# Altium footprint library Mach dieu khien tu xa.PcbLib: 33 footprints (part 2 of 3)
Each footprint in its own frame and in the unit in brackets; x right, y up, seen from the top. Pads: shape width x height; smd on the part's side, far side on the other; paste and mask are expansions set on the pad; w line width, h text height; cw(c..) or ccw(c..) is an arc to the next point about the centre after c.
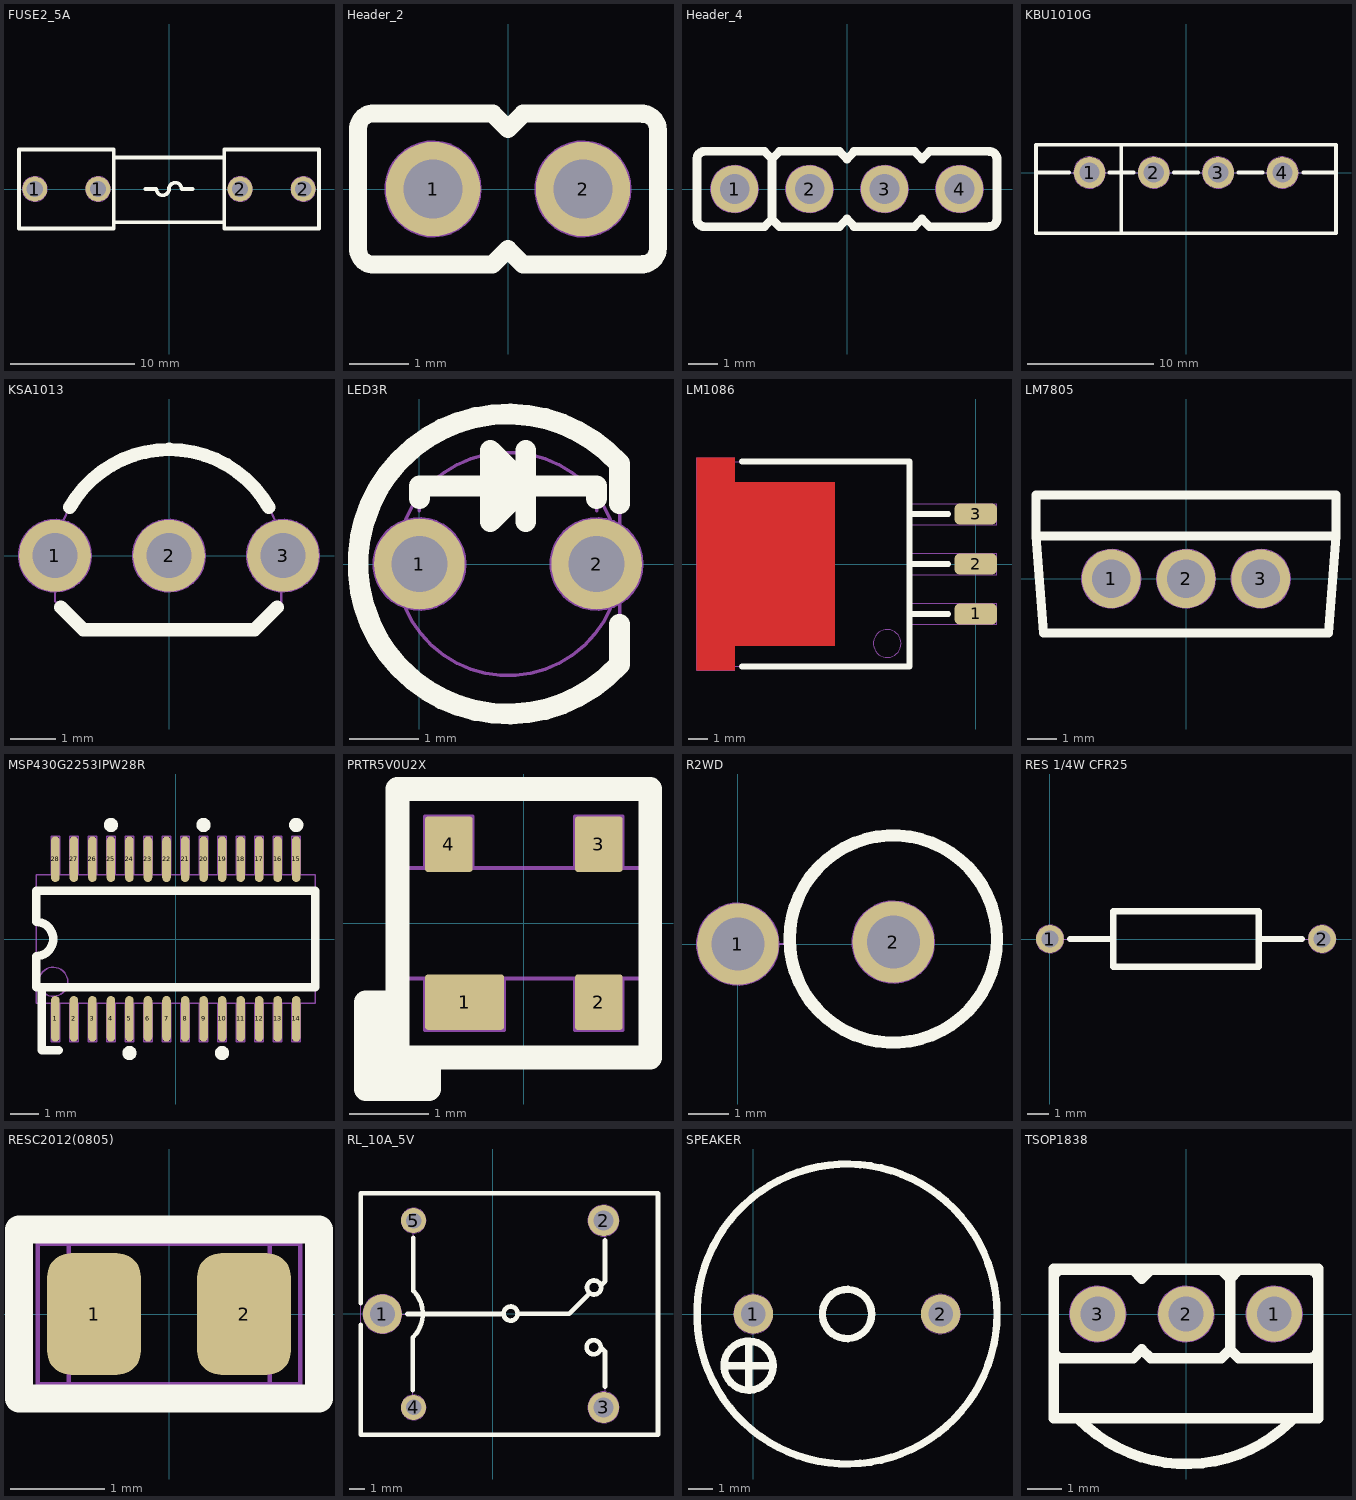
[diagram p1: the footprints below, top view; thin cyan lines are the x and y axes]

## FUSE2_5A [mm] "Fuse 2.5A  250V"
height 1
pads (4):
  round 2 hole 1.3: 1(-10.795,0) 1(-5.715,0) 2(5.715,0) 2(10.795,0)
Top Overlay:
  lines w0.3: -4.445,-2.667 4.445,-2.667 ; -4.445,2.54 4.445,2.54 ; -1.905,0 -1.016,0 ccw(c-0.508,0) 0,0 cw(c0.508,0) 1.016,0 1.905,0 ; -12.065,-3.175 -4.445,-3.175 -4.445,3.175 -12.065,3.175 -12.065,-3.175 ; 4.445,-3.175 4.445,3.175 12.065,3.175 12.065,-3.175 4.445,-3.175
Mechanical 1:
  circle w0.05: c10.795,0 r1
  circle w0.05: c5.715,0 r1
  circle w0.05: c-5.715,0 r1
  circle w0.05: c-10.795,0 r1
  lines w0.05: -4.445,-2.667 4.445,-2.667 ; -4.445,2.54 4.445,2.54 ; -12.065,-3.175 -12.065,3.175 -4.445,3.175 -4.445,-3.175 -12.065,-3.175 ; 4.445,-3.175 4.445,3.175 12.065,3.175 12.065,-3.175 4.445,-3.175
3D body "SW3dPS-Fuse Leg_2009.STEP": height 9.6, standoff -3.3, extent 5.304,-3.09 11.4,3.1
3D body "SW3dPS-Fuse Leg_2009.STEP": height 9.6, standoff -3.3, extent -11.296,-3.09 -5.2,3.1
3D body "SW3dPS-Fuse Small 1A.STEP": height 9.41, standoff 4.31, extent -9.774,-2.489 9.926,2.611

## Header_2 [mm] "Connector DIP, 2Pin_2.54mm"
height 5
pads (2):
  round 1.6 hole 1 mask+0.1: 1(-1.27,0) 2(1.27,0)
Top Overlay:
  lines w0.3: -0.264,-1.28 -2.3,-1.28 cw(c-2.28,-1.02) -2.54,-1 -2.54,1 cw(c-2.28,1.02) -2.3,1.28 -0.254,1.28 ; -0.254,-1.27 0,-1.016 0,-1.026 0.254,-1.28 2.286,-1.28 2.286,-1.27 ; -0.254,1.27 0,1.016 0.254,1.27 ; 0.254,1.28 2.286,1.28 2.286,1.27 ; 2.26,-1.28 ccw(c2.26,-1) 2.54,-1 2.54,1 ccw(c2.26,1) 2.26,1.28
Mechanical 1:
  circle w0.05: c-1.27,0 r0.8
  circle w0.05: c1.27,0 r0.8
  lines w0.05: -0.264,-1.28 -2.3,-1.28 cw(c-2.28,-1.02) -2.54,-1 -2.54,1 cw(c-2.28,1.02) -2.3,1.28 -0.254,1.28 ; -0.254,-1.27 0,-1.016 0,-1.026 0.254,-1.28 2.286,-1.28 2.286,-1.27 ; -0.254,1.27 0,1.016 0.254,1.27 ; 0.254,1.28 2.286,1.28 2.286,1.27 ; 2.26,-1.28 ccw(c2.26,-1) 2.54,-1 2.54,1 ccw(c2.26,1) 2.26,1.28
  text "2" at 1.016,-0.254 h1.2
  text "1" at -1.524,-0.254 h1.2
3D body "Header 1x2.STEP": height 10.1, standoff -1.5, extent -2.54,-1.27 2.54,1.27

## Header_4 [mm] "Connector DIP, 4Pin_2.54mm"
height 5
pads (4):
  round 1.6 hole 1 mask+0.1: 1(-3.81,0) 2(-1.27,0) 3(1.27,0) 4(3.81,0)
Top Overlay:
  lines w0.3: -2.794,-1.28 -2.794,-1.27 ; -2.794,1.27 -2.54,1.016 ; -2.794,1.28 -4.84,1.28 ccw(c-4.82,1.02) -5.08,1 -5.08,-1 ccw(c-4.82,-1.02) -4.84,-1.28 -2.804,-1.28 -2.794,-1.27 ; -2.286,1.27 -2.54,1.016 ; -2.286,1.28 -0.254,1.28 -0.254,1.27 0,1.016 0.254,1.27 ; 0.24,-1.28 2.276,-1.28 2.286,-1.27 ; 0.24,1.28 2.286,1.28 ; 0.254,-1.27 0,-1.016 -0.254,-1.27 -0.254,-1.28 -2.286,-1.28 -2.54,-1.026 ; 2.286,-1.28 2.286,-1.27 ; 2.286,1.27 2.54,1.016 2.794,1.27 ; 2.794,1.28 4.826,1.28 4.826,1.27 ; 4.8,-1.28 ccw(c4.8,-1) 5.08,-1 5.08,1 ccw(c4.8,1) 4.8,1.28 ; 4.826,-1.27 4.826,-1.28 2.794,-1.28 2.54,-1.026 2.54,-1.016 2.286,-1.27 ; -2.794,-1.27 -2.54,-1.016 -2.54,-1.026 ; -2.54,-1.026 -2.54,1.016
Mechanical 1:
  circle w0.05: c3.81,0 r0.8
  circle w0.05: c1.27,0 r0.8
  circle w0.05: c-1.27,0 r0.8
  circle w0.05: c-3.81,0 r0.8
  circle w0.05: c-3.81,0 r0.8
  lines w0.05: -2.794,-1.28 -2.794,-1.27 ; -2.794,1.27 -2.54,1.016 -2.286,1.27 ; -2.794,1.28 -4.84,1.28 ccw(c-4.82,1.02) -5.08,1 -5.08,-1 ccw(c-4.82,-1.02) -4.84,-1.28 -2.804,-1.28 -2.794,-1.27 ; -2.286,1.28 -0.254,1.28 -0.254,1.27 0,1.016 0.254,1.27 ; 0.24,-1.28 2.276,-1.28 2.286,-1.27 ; 0.24,1.28 2.286,1.28 ; 0.254,-1.27 0,-1.016 -0.254,-1.27 -0.254,-1.28 -2.286,-1.28 -2.54,-1.026 -2.54,-1.016 -2.794,-1.27 ; 2.286,-1.28 2.286,-1.27 ; 2.286,1.27 2.54,1.016 2.794,1.27 ; 2.54,-1.026 2.794,-1.28 4.826,-1.28 4.826,-1.27 ; 2.54,-1.016 2.286,-1.27 ; 2.794,1.28 4.826,1.28 4.826,1.27 ; 4.8,-1.28 ccw(c4.8,-1) 5.08,-1 5.08,1 ccw(c4.8,1) 4.8,1.28
  text "1" at -4.064,-0.254 h1.2
  text "4" at 3.556,-0.254 h1.2
3D body "Header 1x4.STEP": height 10.1, standoff -1.5, extent -5.08,-1.27 5.08,1.27

## KBU1010G [mm] "KBP206 bridge diode 10A"
height 19.8
pads (4):
  round 2.5 hole 1.6 mask+0.1: 1(-7.62,0) 2(-2.54,0) 3(2.54,0) 4(7.62,0)
Top Overlay:
  lines w0.3: -11.85,0 -9.24,0 ; -6.04,0 -4.14,0 ; -5.12,-4.8 -5.12,2.2 ; -0.96,0 0.96,0 ; 4.12,0 6.06,0 ; 9.26,0 11.85,0 ; -11.85,-4.8 11.85,-4.8 11.85,2.2 -11.85,2.2 -11.85,-4.8
Mechanical 1:
  circle w0.05: c7.62,0 r1.25
  circle w0.05: c2.54,0 r1.25
  circle w0.05: c-2.54,0 r1.25
  circle w0.05: c-7.62,0 r1.25
  lines w0.05: -11.85,0 -8.87,0 ; -6.37,0 -3.79,0 ; -5.12,-4.8 -5.12,2.2 ; -1.29,0 1.29,0 ; 3.79,0 6.37,0 ; 8.87,0 11.85,0 ; -11.85,-4.8 11.85,-4.8 11.85,2.2 -11.85,2.2 -11.85,-4.8
  text "+" at -7.92,-2.4 h1
  text "AC" at -3.32,-2.5 h1
  text "AC" at 1.78,-2.5 h1
  text "-" at 7.48,-2.4 h1
  text "4" at 7.28,-0.5 h1
  text "1" at -7.72,-0.5 h1
3D body "User Library-Silicon Bridge Rectifiers KBU1010.step": height 18.65, standoff -23.65, extent -11.6,-4.75 11.6,2.2

## KSA1013 [mm] "TO-92 Bent Lead, Flat Index; 3 In-Line, Axial Leads; Body Dia. 4.5mm; Leads 0.51 x 0.48 mm (max)"
height 6.5
pads (3):
  round 1.6 hole 1 mask+0.1: 1(-2.54,0) 2(0,0)
  round 1.6 hole 1: 3(2.54,0)
Top Overlay:
  lines w0.3: -2.413,-1.143 -1.905,-1.651 1.905,-1.651 2.413,-1.143 ; -2.212,1.074 cw(c0.006,-0.185) 2.221,1.079
Mechanical 1:
  circle w0.05: c-2.54,0 r0.8
  circle w0.05: c0,0 r0.8
  circle w0.05: c2.54,0 r0.8
  lines w0.05: -2.54,-0.8 -2.54,-1.016 -1.905,-1.651 1.905,-1.651 2.5,-1.056 2.5,-0.8 ; -2.351,0.789 cw(c0.006,-0.185) 2.364,0.785
  text "B" at 2.286,-0.381 h0.8
  text "C" at -0.254,-0.381 h0.8
  text "E" at -2.794,-0.381 h0.8
Mechanical 15:
  lines w0.1: -0.5,0 0.5,0 ; 0,-0.5 0,0.5
3D body "TO-92_Bent.STEP": height 10, standoff -3, extent -2.79,-1.59 2.79,2.613

## LED3R [mm] "LED 3mm_RED"
height 5.5
pads (2):
  round 1.3 hole 0.8: 1(0,0) 2(2.54,0)
Top Overlay:
  lines w0.3: 0,0.94 0,1.116 1.016,1.116 ; 1.092,1.548 1.092,0.684 ; 1.168,1.472 1.168,0.76 1.092,0.684 ; 1.245,1.395 1.245,0.837 1.321,0.913 ; 1.321,1.319 1.321,0.913 ; 1.397,1.243 1.397,0.989 1.321,0.913 ; 1.524,0.608 1.524,1.624 ; 2.54,0.94 2.54,1.116 2.286,1.116 1.524,1.116 ; 2.869,-1.437 cw(c1.27,0) 2.869,1.437 ; 2.87,-1.438 2.87,-0.864 ; 2.87,0.864 2.87,1.438 ; 1.016,0.608 1.016,1.624 1.524,1.116 ; 1.016,0.608 1.524,1.116 ; 1.016,0.608 1.092,0.684
Mechanical 1:
  circle w0.05: c1.27,0 r1.6
  circle w0.05: c0,0 r0.65
  circle w0.05: c2.54,0 r0.65
  lines w0.05: 0,0.762 0,1.016 1.016,1.016 ; 1.092,1.448 1.092,0.584 ; 1.168,1.372 1.168,0.66 1.092,0.584 ; 1.245,1.295 1.245,0.737 1.321,0.813 ; 1.321,1.219 1.321,0.813 ; 1.397,1.143 1.397,0.889 1.321,0.813 ; 1.524,0.508 1.524,1.524 ; 2.54,0.762 2.54,1.016 2.286,1.016 1.524,1.016 ; 2.868,-1.438 cw(c1.27,0) 2.868,1.438 ; 2.87,-1.438 2.87,1.438 ; 1.016,0.508 1.092,0.584 ; 1.016,0.508 1.524,1.016 ; 1.016,0.508 1.016,1.524 1.524,1.016
3D body "User Library-LED-D3R.step": height 4.6, standoff -6.5, extent -0.73,-2 2.937,2

## LM1086 [mm] "TO-263 1.5A Low Dropout Positive Regulators"
height 4.64
pads (3):
  rrect50% 2.16x1.07 smd mask+0.1: 1(0,-2.54) 2(0,0) 3(0,2.54)
Top Layer:
  region: -14.17,-5.4 -14.17,5.4 -12.26,5.4 -12.26,4.165 -7.18,4.165 -7.18,-4.165 -12.26,-4.165 -12.26,-5.4
Top Overlay:
  lines w0.3: -11.875,-5.205 -3.37,-5.205 -3.37,5.205 -11.875,5.205 ; -3.37,-2.54 -1.4,-2.54 ; -3.37,0 -1.4,0 ; -3.37,2.54 -1.4,2.54
Top Paste:
  region: -14.17,-5.4 -14.17,5.4 -12.26,5.4 -12.26,4.165 -7.18,4.165 -7.18,-4.165 -12.26,-4.165 -12.26,-5.4
Mechanical 1:
  circle w0.05: c-4.5,-4.04 r0.707
  lines w0.05: -12.26,-5.19 -12.26,-5.4 -14.17,-5.4 -14.17,5.4 -12.26,5.4 -12.26,5.205 ; -13.53,-5.205 -3.37,-5.205 -3.37,5.205 -13.53,5.205 -13.53,-5.205 ; -3.37,-3.075 -3.37,-2.005 1.08,-2.005 1.08,-3.075 -3.37,-3.075 ; -3.37,-0.535 -3.37,0.535 1.08,0.535 1.08,-0.535 -3.37,-0.535 ; -3.37,2.005 -3.37,3.075 1.08,3.075 1.08,2.005 -3.37,2.005
  text "3" at -3.575,2.2 h1
  text "2" at -3.675,-0.4 h1
  text "1" at -3.675,-2.7 h1
3D body "SW3dPS-TO263-3S.STEP": height 4.78, standoff -0.02, extent -14.518,-5 1.152,5

## LM7805 [mm] "POWER IC 7805"
height 15.49
pads (3):
  round 2 hole 1.3: 1(-2.54,0) 2(0,0) 3(2.54,0)
Top Overlay:
  lines w0.3: -5.1,1.451 -4.85,-1.85 4.85,-1.85 5.1,1.451 ; -5.1,1.45 -5.1,2.85 5.1,2.85 5.1,1.45 -5.1,1.45
Mechanical 1:
  circle w0.05: c-2.54,0 r1
  circle w0.05: c0,0 r1
  circle w0.05: c2.54,0 r1
  lines w0.05: -5.1,1.451 -4.85,-1.85 4.85,-1.85 5.1,1.451 ; -5.1,1.45 5.1,1.45 5.1,2.85 -5.1,2.85 -5.1,1.45
  text "I" at -2.667,1.524 h1.2
  text "G" at -0.381,1.524 h1.2
  text "O" at 2.159,1.524 h1.2
3D body "SW3dPS-TO220AB.STEP": height 19.17, standoff -10.16, extent -5.562,-1.626 5.651,3.064

## MSP430G2253IPW28R [mm] "TSSOP PW 28  PIN TO PIN 0.65"
height 1.2
pads (28):
  oval 0.3x1.6 smd mask+0.1: 1(-4.225,-2.8) 2(-3.575,-2.8) 3(-2.925,-2.8) 4(-2.275,-2.8) 5(-1.625,-2.8) 6(-0.975,-2.8) 7(-0.325,-2.8) 8(0.325,-2.8) 9(0.975,-2.8) 10(1.625,-2.8) 11(2.275,-2.8) 12(2.925,-2.8) 13(3.575,-2.8) 14(4.225,-2.8) 15(4.225,2.8) 16(3.575,2.8) 17(2.925,2.8) 18(2.275,2.8) 19(1.625,2.8) 20(0.975,2.8) 21(0.325,2.8) 22(-0.325,2.8) 23(-0.975,2.8) 24(-1.625,2.8) 25(-2.275,2.8) 26(-2.925,2.8) 27(-3.575,2.8) 28(-4.225,2.8)
Top Overlay:
  circle w0.3: c-1.625,-4 r0.1
  circle w0.3: c1.625,-4 r0.1
  circle w0.3: c4.225,4 r0.1
  circle w0.3: c0.975,4 r0.1
  circle w0.3: c-2.275,4 r0.1
  lines w0.3: -4.7,-1.7 -4.7,-3.9 -4.1,-3.9 ; -4.9,-1.7 -4.9,-0.6 ccw(c-4.9,0) -4.9,0.6 -4.9,1.7 4.9,1.7 4.9,-1.7 -4.9,-1.7
Mechanical 1:
  circle w0.05: c-4.3,-1.5 r0.51
  lines w0.05: -4.9,-0.6 ccw(c-4.9,0) -4.9,0.6 ; -4.9,-2.25 -4.9,2.25 4.9,2.25 4.9,-2.25 -4.9,-2.25 ; -4.375,-3.6 -4.375,-2.25 -4.075,-2.25 -4.075,-3.6 -4.375,-3.6 ; -4.375,2.25 -4.075,2.25 -4.075,3.6 -4.375,3.6 -4.375,2.25 ; -3.725,-3.6 -3.725,-2.25 -3.425,-2.25 -3.425,-3.6 -3.725,-3.6 ; -3.725,2.25 -3.425,2.25 -3.425,3.6 -3.725,3.6 -3.725,2.25 ; -3.075,-3.6 -3.075,-2.25 -2.775,-2.25 -2.775,-3.6 -3.075,-3.6 ; -3.075,2.25 -2.775,2.25 -2.775,3.6 -3.075,3.6 -3.075,2.25 ; -2.425,-3.6 -2.425,-2.25 -2.125,-2.25 -2.125,-3.6 -2.425,-3.6 ; -2.425,2.25 -2.125,2.25 -2.125,3.6 -2.425,3.6 -2.425,2.25 ; -1.775,-3.6 -1.775,-2.25 -1.475,-2.25 -1.475,-3.6 -1.775,-3.6 ; -1.775,2.25 -1.475,2.25 -1.475,3.6 -1.775,3.6 -1.775,2.25 ; -1.125,-3.6 -1.125,-2.25 -0.825,-2.25 -0.825,-3.6 -1.125,-3.6 ; -1.125,2.25 -0.825,2.25 -0.825,3.6 -1.125,3.6 -1.125,2.25 ; -0.475,-3.6 -0.475,-2.25 -0.175,-2.25 -0.175,-3.6 -0.475,-3.6 ; -0.475,2.25 -0.175,2.25 -0.175,3.6 -0.475,3.6 -0.475,2.25 ; 0.175,-3.6 0.175,-2.25 0.475,-2.25 0.475,-3.6 0.175,-3.6 ; 0.175,2.25 0.475,2.25 0.475,3.6 0.175,3.6 0.175,2.25 ; 0.825,-3.6 0.825,-2.25 1.125,-2.25 1.125,-3.6 0.825,-3.6 ; 0.825,2.25 1.125,2.25 1.125,3.6 0.825,3.6 0.825,2.25 ; 1.475,-3.6 1.475,-2.25 1.775,-2.25 1.775,-3.6 1.475,-3.6 ; 1.475,2.25 1.775,2.25 1.775,3.6 1.475,3.6 1.475,2.25 ; 2.125,-3.6 2.125,-2.25 2.425,-2.25 2.425,-3.6 2.125,-3.6 ; 2.125,2.25 2.425,2.25 2.425,3.6 2.125,3.6 2.125,2.25 ; 2.775,-3.6 2.775,-2.25 3.075,-2.25 3.075,-3.6 2.775,-3.6 ; 2.775,2.25 3.075,2.25 3.075,3.6 2.775,3.6 2.775,2.25 ; 3.425,-3.6 3.425,-2.25 3.725,-2.25 3.725,-3.6 3.425,-3.6 ; 3.425,2.25 3.725,2.25 3.725,3.6 3.425,3.6 3.425,2.25 ; 4.075,-3.6 4.075,-2.25 4.375,-2.25 4.375,-3.6 4.075,-3.6 ; 4.075,2.25 4.375,2.25 4.375,3.6 4.075,3.6 4.075,2.25
  text "14" at 3.1,-1.9 h1
  text "15" at 3,0.9 h1
  text "28" at -4.5,0.9 h1
3D body "User Library-PWP (R-PDSO-G28).STEP": height 1.2, standoff 0, extent -4.9,-3.31 4.9,3.31

## PRTR5V0U2X [mm] "SOT143B Ultra low capacitance double rail-to-rail ESD protection diode"
height 1.1
pads (4):
  rrect10% 1x0.7 smd mask+0.1: 1(-0.75,-1)
  rrect10% 0.6x0.7 smd mask+0.1: 2(0.95,-1) 3(0.95,1) 4(-0.95,1)
Top Overlay:
  lines w0.3: -1.2,-1.9 -1.8,-1.9 -1.8,-1 -1.6,-1 -2,-1 -2,-2.1 -1.2,-2.1 -1.2,-1.7 ; -1.6,-1.7 1.6,-1.7 1.6,1.7 -1.6,1.7 -1.6,-1.7
Mechanical 1:
  lines w0.05: -1.5,-0.7 -1.5,0.7 1.5,0.7 1.5,-0.7 -1.5,-0.7 ; -1.25,-1.35 -0.25,-1.35 -0.25,-0.7 -1.25,-0.7 -1.25,-1.35 ; -1.25,0.7 -0.65,0.7 -0.65,1.35 -1.25,1.35 -1.25,0.7 ; 0.65,-1.35 0.65,-0.7 1.25,-0.7 1.25,-1.35 0.65,-1.35 ; 0.65,0.7 0.65,1.35 1.25,1.35 1.25,0.7 0.65,0.7
  text "VCC" at -1.45,0.14 h0.5
  text "IO2" at 0.25,0.15 h0.5
  text "IO1" at 0.36,-0.66 h0.5
  text "GND" at -1.5,-0.7 h0.5

## R2WD [mm] "R2W, 2 pin 3.81mm stand"
height 13.5
pads (2):
  round 2 hole 1.3: 1(0,0) 2(3.81,0.051)
Top Overlay:
  circle w0.3: c3.81,0.127 r2.54
Mechanical 1:
  circle w0.05: c3.81,0.051 r1
  circle w0.05: c0,0 r1
  circle w0.05: c3.81,0.127 r2.54
  lines w0.05: 1,0 1.27,0

## RES 1/4W CFR25 [mm] "Axial Device, Thru-Hole; 2 Leads fi 0.55"
height 2.6
pads (2):
  round 1.3 hole 0.8 mask+0.1: 1(0,0) 2(12.7,0)
Top Overlay:
  lines w0.3: 0.94,0 2.95,0 ; 9.75,0 11.76,0 ; 2.95,-1.3 9.75,-1.3 9.75,1.3 2.95,1.3 2.95,-1.3
Mechanical 1:
  circle w0.05: c12.7,0 r0.65
  circle w0.05: c0,0 r0.65
  lines w0.05: 0.65,0 2.95,0 ; 9.75,0 12.052,0 ; 2.95,-1.3 2.95,1.3 9.75,1.3 9.75,-1.3 2.95,-1.3
3D body "User Library-RESISTOR  0_25 W  0_4 IN LEAD PITCH.step": height 2.93, standoff -2.54, extent 0.965,-1.156 11.735,1.156

## RESC2012(0805) [mm] "Chip Resistor, Body 2.0x1.3mm, 1/8W 0805"
height 0.65
pads (2):
  rrect50% 1x1.3 smd: 1(-0.8,0) 2(0.8,0)
Top Overlay:
  lines w0.3: -1.6,-0.9 -1.6,0.9 1.6,0.9 1.6,-0.9 -1.6,-0.9
Mechanical 1:
  lines w0.05: -1.07,-0.74 -1.07,0.75 ; 1.075,-0.74 1.075,0.75 ; -1.4,-0.75 -1.4,0.75 1.4,0.75 1.4,-0.75 -1.4,-0.75
3D body "Res 0805.STEP": height 0.6, standoff 0, extent -1,-0.625 1,0.625

## RL_10A_5V [mm] "Relay SRD-05VDC-SL-C, 5 pin, 10A,19.1X15.5"
height 15.3
pads (5):
  round 2.5 hole 1.6: 1(-7.1,0)
  round 2 hole 1.3: 2(7.1,6) 3(7.1,-6)
  round 1.6 hole 1: 4(-5.1,-6) 5(-5.1,6)
Top Overlay:
  circle w0.3: c1.135,0.025 r0.452
  circle w0.3: c6.494,1.702 r0.452
  circle w0.3: c6.469,-2.134 r0.452
  lines w0.3: -8.5,-0.7 -8.5,-7.75 10.6,-7.75 10.6,7.75 -8.5,7.75 -8.5,0.7 ; -5.5,0 0.622,0 ; -5.149,-4.9 -5.149,-1.499 ; -5.123,-1.473 ccw(c-6.584,0.013) -5.098,1.473 ; -5.123,1.499 -5.123,4.9 ; 1.638,0.025 4.9,0.025 6.075,1.201 ; 6.921,-2.134 7.2,-2.413 7.2,-4.675 ; 6.946,1.854 7.2,2.108 7.2,4.725
Mechanical 1:
  circle w0.05: c7.1,6 r1
  circle w0.05: c7.1,-6 r1
  circle w0.05: c-5.1,-6 r0.8
  circle w0.05: c-5.1,6 r0.8
  circle w0.05: c-7.1,0 r1.25
  circle w0.05: c1.135,0.025 r0.452
  circle w0.05: c6.469,-2.134 r0.452
  circle w0.05: c6.494,1.702 r0.452
  lines w0.05: -5.85,0 0.66,0 ; -5.149,-5.19 -5.149,-1.499 ; -5.123,-1.473 ccw(c-6.584,0.013) -5.098,1.473 ; -5.123,1.499 -5.123,5.19 ; 1.587,0.025 4.9,0.025 6.187,1.313 ; 6.921,-2.134 7.2,-2.413 7.2,-5 ; 6.946,1.854 7.2,2.108 7.2,5 ; -8.5,-7.75 -8.5,7.75 10.6,7.75 10.6,-7.75 -8.5,-7.75
  text "1" at -7.3,-0.6 h1.2
  text "5" at -5.4,5.5 h1.2
  text "4" at -5.5,-6.6 h1.2
  text "2" at 6.7,5.4 h1.2
  text "3" at 6.7,-6.7 h1.2
3D body "User Library-SONGLE Relay SRU-12VDC-SL-C.step": height 15.3, standoff -5, extent -8.5,-7.75 10.6,7.75

## SPEAKER [mm] "TMB12A05"
height 9.7
pads (2):
  round 1.6 hole 1 mask+0.1: 1(0,0) 2(7.62,0)
Top Overlay:
  circle w0.3: c3.81,0 r1
  circle w0.3: c3.81,0 r6.1
  circle w0.3: c-0.19,-2.1 r1
  lines w0.3: -1.19,-2.1 0.81,-2.1 ; -0.19,-3.1 -0.19,-1.1
Mechanical 1:
  circle w0.05: c-0.19,-2.1 r1
  circle w0.05: c3.81,0 r6.1
  circle w0.05: c3.81,0 r1
  circle w0.05: c7.62,0 r0.8
  circle w0.05: c0,0 r0.8
  lines w0.05: -1.19,-2.1 0.81,-2.1 ; -0.19,-3.1 -0.19,-1.1
  text "2" at 7.32,-0.6 h1.2
  text "1" at -0.2,-0.5 h1.2

## TSOP1838 [mm] "Connector DIP, 3Pin_2.54mm"
height 8.25
pads (3):
  round 1.6 hole 1 mask+0.1: 1(2.54,0) 2(0,0) 3(-2.54,0)
Top Overlay:
  lines w0.3: -3.098,-3.009 ccw(c0,0) 3.012,-3.095 ; -1.524,-1.28 -1.524,-1.27 ; -1.524,1.27 -1.27,1.016 -1.016,1.27 ; -1.524,1.28 -3.57,1.28 ccw(c-3.55,1.02) -3.81,1 -3.81,-1 ccw(c-3.55,-1.02) -3.57,-1.28 -1.534,-1.28 -1.524,-1.27 ; -1.016,1.28 1.016,1.28 ; 1.016,-1.28 -1.016,-1.28 -1.27,-1.026 -1.27,-1.016 -1.524,-1.27 ; 1.016,-1.27 1.27,-1.016 ; 1.016,1.27 1.27,1.016 ; 1.524,1.27 1.27,1.016 ; 1.524,1.28 3.556,1.28 3.556,1.27 ; 3.53,-1.28 ccw(c3.53,-1) 3.81,-1 3.81,1 ccw(c3.53,1) 3.53,1.28 ; 3.556,-1.27 3.556,-1.28 1.524,-1.28 1.27,-1.026 1.27,-1.016 ; -3.81,1.3 -3.81,-3 3.81,-3 3.81,1.3 ; -3.81,1.3 3.81,1.3 ; -3.81,1.3 3.81,1.3 ; 1.27,-1.016 1.27,1.016
Mechanical 1:
  circle w0.05: c0,0 r0.8
  circle w0.05: c-2.54,0 r0.8
  circle w0.05: c2.54,0 r0.8
  lines w0.05: -3.098,-3.009 ccw(c0,0) 3.012,-3.095 ; -3.81,-1 ccw(c-3.55,-1.02) -3.57,-1.28 ; -3.81,-1 ccw(c-3.55,-1.02) -3.57,-1.28 ; -3.81,-1 -3.81,1 ; -3.81,-1 -3.81,1 ; -3.81,1 cw(c-3.55,1.02) -3.57,1.28 ; -3.81,1 cw(c-3.55,1.02) -3.57,1.28 ; -3.81,1.3 3.81,1.3 ; -3.81,1.3 3.81,1.3 ; -3.81,1.3 -3.81,-3 3.81,-3 3.81,1.3 ; -3.57,-1.28 -1.534,-1.28 ; -3.57,-1.28 -1.534,-1.28 ; -3.57,1.28 -1.524,1.28 -3.57,1.28 ; -1.534,-1.28 -1.524,-1.27 ; -1.534,-1.28 -1.524,-1.27 ; -1.524,-1.27 -1.524,-1.28 -1.524,-1.27 ; -1.524,-1.27 -1.27,-1.016 ; -1.524,-1.27 -1.27,-1.016 ; -1.27,-1.026 -1.27,-1.016 ; -1.27,-1.026 -1.016,-1.28 ; -1.27,-1.026 -1.27,-1.016 ; -1.27,-1.026 -1.016,-1.28 ; -1.27,1.016 -1.524,1.27 -1.27,1.016 ; -1.27,1.016 -1.016,1.27 -1.27,1.016 ; -1.016,-1.28 1.016,-1.28 -1.016,-1.28 ; 1.27,-1.026 1.524,-1.28 ; 1.27,-1.026 1.27,-1.016 ; 1.27,-1.026 1.524,-1.28 ; 1.27,-1.026 1.27,-1.016 ; 1.27,-1.016 1.27,1.016 ; 1.27,-1.016 1.016,-1.27 1.27,-1.016 ; 1.27,1.016 1.524,1.27 1.27,1.016 ; 1.27,1.016 1.016,1.27 1.27,1.016 ; 1.524,-1.28 3.556,-1.28 ; 1.524,-1.28 3.556,-1.28 ; 3.556,-1.28 3.556,-1.27 3.556,-1.28 ; 3.556,1.28 3.556,1.27 3.556,1.28 ; 3.556,1.28 1.524,1.28 3.556,1.28 ; 3.81,-1 cw(c3.53,-1) 3.53,-1.28 ccw(c3.53,-1) 3.81,-1 ; 3.81,-1 3.81,1 ; 3.81,-1 3.81,1 ; 3.81,1 ccw(c3.53,1) 3.53,1.28 cw(c3.53,1) 3.81,1 ; -1.016,1.28 1.016,1.28 -1.016,1.28
  text "1" at 2.286,-0.254 h1.2
  text "3" at -2.794,-0.254 h1.2
  text "OUT" at -3.5,-2.7 h1
  text "VCC" at 0.9,-2.7 h1
  text "GND" at 0.5,-4.2 h1